# EAGLE library part LM324LVIDR (library LM324LVIDR)
4-Channel Industry Standard Low Voltage Operational Amplifier Source: Datasheet <http://www.ti.com/lit/gpn/lm324lv>
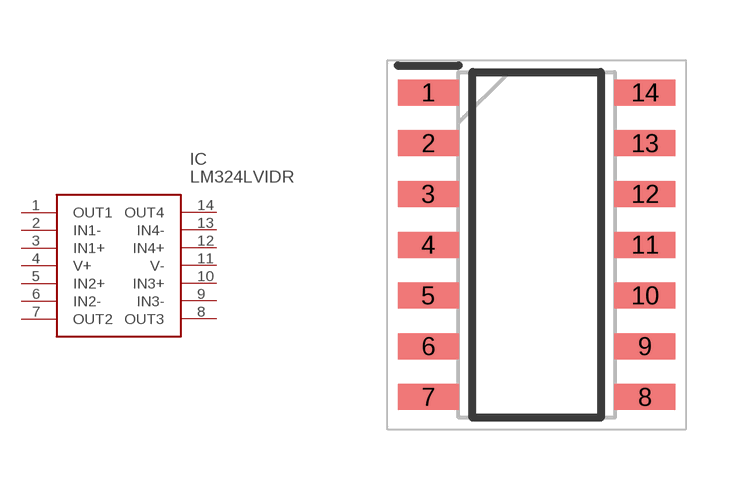
[diagram p0: symbol with the pads of SOIC127P600X175-14N; footprint SOIC127P600X175-14N]

Designator prefix IC

## LM324LVIDR (Arrow_Part_Number: LM324LVIDR; Arrow_Price-Stock: https://www.arrow.com/en/products/lm324lvidr/texas-instruments; Description: 4-Channel Industry Standard Low Voltage Operational Amplifier; Height: 1.75mm; Manufacturer_Name: Texas Instruments; Manufacturer_Part_Number: LM324LVIDR; Mouser_Part_Number: 595-LM324LVIDR; Mouser_Price-Stock: https://www.mouser.co.uk/ProductDetail/Texas-Instruments/LM324LVIDR/?qs=qSfuJ%252Bfl%2Fd62Uwb7PBNJ4g%3D%3D)  [SOIC127P600X175-14N]
1  OUT1
2  IN1-
3  IN1+
4  V+
5  IN2+
6  IN2-
7  OUT2
8  OUT3
9  IN3-
10  IN3+
11  V-
12  IN4+
13  IN4-
14  OUT4

## Footprint SOIC127P600X175-14N (pad centres in mm)
LM324LVIDR-1
smd 1.525 x 0.65: 1 -2.712,3.81; 2 -2.712,2.54; 3 -2.712,1.27; 4 -2.712,0; 5 -2.712,-1.27; 6 -2.712,-2.54; 7 -2.712,-3.81; 8 2.712,-3.81; 9 2.712,-2.54; 10 2.712,-1.27; 11 2.712,0; 12 2.712,1.27; 13 2.712,2.54; 14 2.712,3.81